# Altium schematic symbol library Device.SchLib: 594 symbols (part 2 of 3)
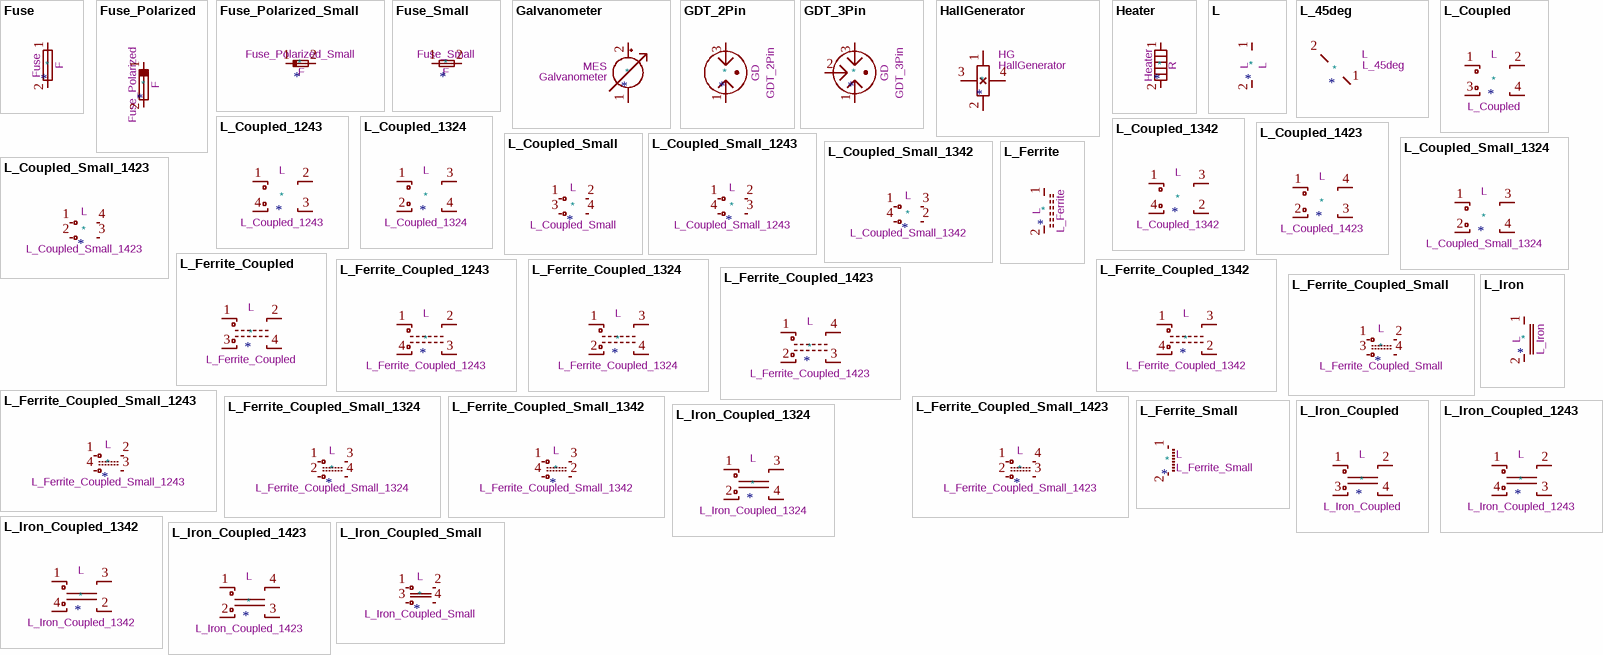
[diagram p20: symbols Fuse to L_Iron_Coupled_Small]

## L_Coupled_Small_1243
designator *  value L_Coupled_Small_1243  Reference: L
ki_keywords: inductor choke coil reactor magnetic coupled; ki_description: Coupled inductor, small symbol; ki_fp_filters: Choke_* *Coil* Inductor_* L_*; Datasheet: ~
pins: 1, 2, 3, 4

## L_Coupled_Small_1324
designator *  value L_Coupled_Small_1324  Reference: L
ki_keywords: inductor choke coil reactor magnetic coupled; ki_description: Coupled inductor, small symbol; ki_fp_filters: Choke_* *Coil* Inductor_* L_*; Datasheet: ~
pins: 1, 2, 3, 4

## L_Coupled_Small_1342
designator *  value L_Coupled_Small_1342  Reference: L
ki_keywords: inductor choke coil reactor magnetic coupled; ki_description: Coupled inductor, small symbol; ki_fp_filters: Choke_* *Coil* Inductor_* L_*; Datasheet: ~
pins: 1, 2, 3, 4

## L_Coupled_Small_1423
designator *  value L_Coupled_Small_1423  Reference: L
ki_keywords: inductor choke coil reactor magnetic coupled; ki_description: Coupled inductor, small symbol; ki_fp_filters: Choke_* *Coil* Inductor_* L_*; Datasheet: ~
pins: 1, 2, 3, 4

## L_Ferrite
designator *  value L_Ferrite  Reference: L
ki_keywords: inductor choke coil reactor magnetic; ki_description: Inductor with ferrite core; ki_fp_filters: Choke_* *Coil* Inductor_* L_*; Datasheet: ~
pins: 1, 2

## L_Ferrite_Coupled
designator *  value L_Ferrite_Coupled  Reference: L
ki_keywords: inductor choke coil reactor magnetic coupled; ki_description: Coupled inductor with ferrite core; ki_fp_filters: Choke_* *Coil* Inductor_* L_*; Datasheet: ~
pins: 1, 2, 3, 4

## L_Ferrite_Coupled_1243
designator *  value L_Ferrite_Coupled_1243  Reference: L
ki_keywords: inductor choke coil reactor magnetic coupled; ki_description: Coupled inductor with ferrite core; ki_fp_filters: Choke_* *Coil* Inductor_* L_*; Datasheet: ~
pins: 1, 2, 3, 4

## L_Ferrite_Coupled_1324
designator *  value L_Ferrite_Coupled_1324  Reference: L
ki_keywords: inductor choke coil reactor magnetic coupled; ki_description: Coupled inductor with ferrite core; ki_fp_filters: Choke_* *Coil* Inductor_* L_*; Datasheet: ~
pins: 1, 2, 3, 4

## L_Ferrite_Coupled_1342
designator *  value L_Ferrite_Coupled_1342  Reference: L
ki_keywords: inductor choke coil reactor magnetic coupled; ki_description: Coupled inductor with ferrite core; ki_fp_filters: Choke_* *Coil* Inductor_* L_*; Datasheet: ~
pins: 1, 2, 3, 4

## L_Ferrite_Coupled_1423
designator *  value L_Ferrite_Coupled_1423  Reference: L
ki_keywords: inductor choke coil reactor magnetic coupled; ki_description: Coupled inductor with ferrite core; ki_fp_filters: Choke_* *Coil* Inductor_* L_*; Datasheet: ~
pins: 1, 2, 3, 4

## L_Ferrite_Coupled_Small
designator *  value L_Ferrite_Coupled_Small  Reference: L
ki_keywords: inductor choke coil reactor magnetic coupled; ki_description: Coupled inductor with ferrite core, small symbol; ki_fp_filters: Choke_* *Coil* Inductor_* L_*; Datasheet: ~
pins: 1, 2, 3, 4

## L_Ferrite_Coupled_Small_1243
designator *  value L_Ferrite_Coupled_Small_1243  Reference: L
ki_keywords: inductor choke coil reactor magnetic coupled; ki_description: Coupled inductor with ferrite core, small symbol; ki_fp_filters: Choke_* *Coil* Inductor_* L_*; Datasheet: ~
pins: 1, 2, 3, 4

## L_Ferrite_Coupled_Small_1324
designator *  value L_Ferrite_Coupled_Small_1324  Reference: L
ki_keywords: inductor choke coil reactor magnetic coupled; ki_description: Coupled inductor with ferrite core, small symbol; ki_fp_filters: Choke_* *Coil* Inductor_* L_*; Datasheet: ~
pins: 1, 2, 3, 4

## L_Ferrite_Coupled_Small_1342
designator *  value L_Ferrite_Coupled_Small_1342  Reference: L
ki_keywords: inductor choke coil reactor magnetic coupled; ki_description: Coupled inductor with ferrite core, small symbol; ki_fp_filters: Choke_* *Coil* Inductor_* L_*; Datasheet: ~
pins: 1, 2, 3, 4

## L_Ferrite_Coupled_Small_1423
designator *  value L_Ferrite_Coupled_Small_1423  Reference: L
ki_keywords: inductor choke coil reactor magnetic coupled; ki_description: Coupled inductor with ferrite core, small symbol; ki_fp_filters: Choke_* *Coil* Inductor_* L_*; Datasheet: ~
pins: 1, 2, 3, 4

## L_Ferrite_Small
designator *  value L_Ferrite_Small  Reference: L
ki_keywords: inductor choke coil reactor magnetic; ki_description: Inductor with ferrite core, small symbol; ki_fp_filters: Choke_* *Coil* Inductor_* L_*; Datasheet: ~
pins: 1, 2

## L_Iron
designator *  value L_Iron  Reference: L
ki_keywords: inductor choke coil reactor magnetic; ki_description: Inductor with iron core; ki_fp_filters: Choke_* *Coil* Inductor_* L_*; Datasheet: ~
pins: 1, 2

## L_Iron_Coupled
designator *  value L_Iron_Coupled  Reference: L
ki_keywords: inductor choke coil reactor magnetic coupled; ki_description: Coupled inductor with iron core; ki_fp_filters: Choke_* *Coil* Inductor_* L_*; Datasheet: ~
pins: 1, 2, 3, 4

## L_Iron_Coupled_1243
designator *  value L_Iron_Coupled_1243  Reference: L
ki_keywords: inductor choke coil reactor magnetic coupled; ki_description: Coupled inductor with iron core; ki_fp_filters: Choke_* *Coil* Inductor_* L_*; Datasheet: ~
pins: 1, 2, 3, 4

## L_Iron_Coupled_1324
designator *  value L_Iron_Coupled_1324  Reference: L
ki_keywords: inductor choke coil reactor magnetic coupled; ki_description: Coupled inductor with iron core; ki_fp_filters: Choke_* *Coil* Inductor_* L_*; Datasheet: ~
pins: 1, 2, 3, 4

## L_Iron_Coupled_1342
designator *  value L_Iron_Coupled_1342  Reference: L
ki_keywords: inductor choke coil reactor magnetic coupled; ki_description: Coupled inductor with iron core; ki_fp_filters: Choke_* *Coil* Inductor_* L_*; Datasheet: ~
pins: 1, 2, 3, 4

## L_Iron_Coupled_1423
designator *  value L_Iron_Coupled_1423  Reference: L
ki_keywords: inductor choke coil reactor magnetic coupled; ki_description: Coupled inductor with iron core; ki_fp_filters: Choke_* *Coil* Inductor_* L_*; Datasheet: ~
pins: 1, 2, 3, 4

## L_Iron_Coupled_Small
designator *  value L_Iron_Coupled_Small  Reference: L
ki_keywords: inductor choke coil reactor magnetic coupled; ki_description: Coupled inductor with iron core, small symbol; ki_fp_filters: Choke_* *Coil* Inductor_* L_*; Datasheet: ~
pins: 1, 2, 3, 4

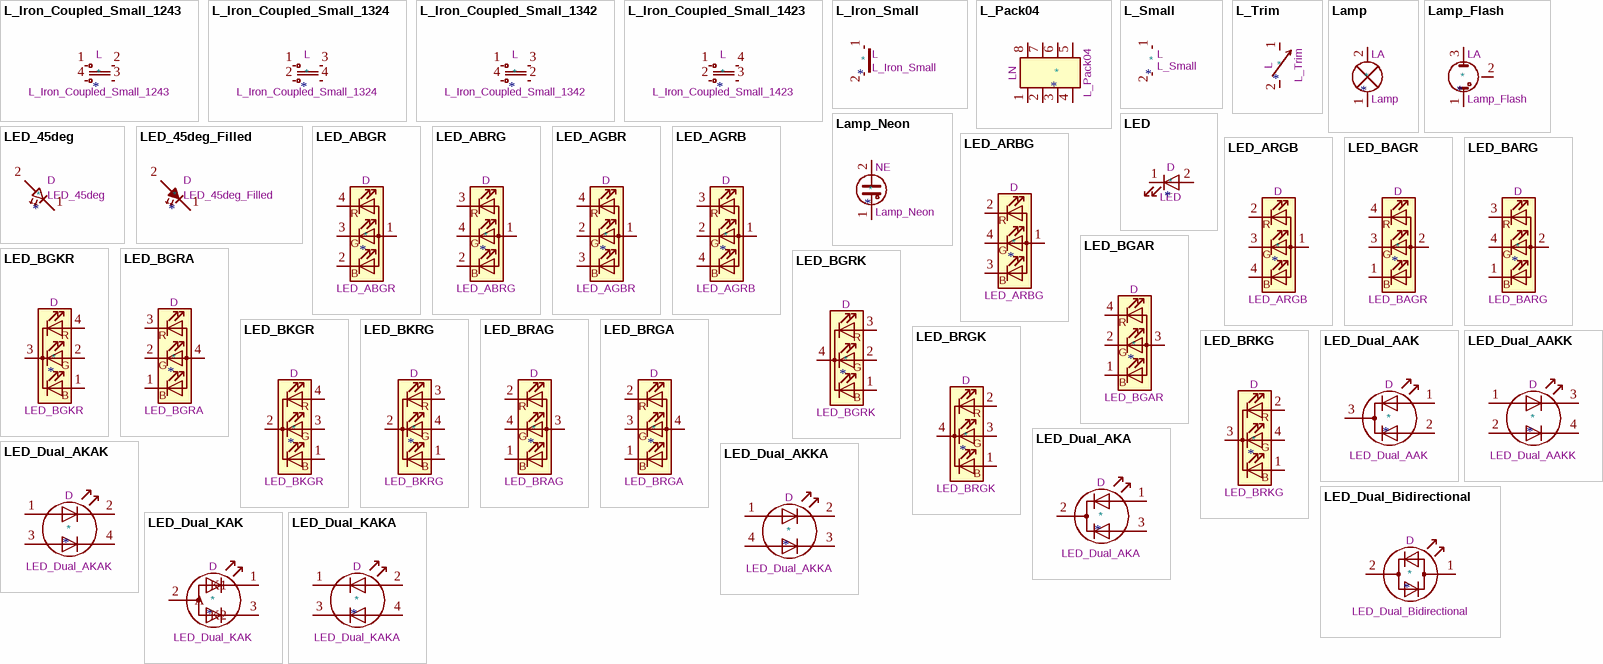
[diagram p7: symbols L_Iron_Coupled_Small_1243 to LED_Dual_KAKA]

## L_Iron_Coupled_Small_1243
designator *  value L_Iron_Coupled_Small_1243  Reference: L
ki_keywords: inductor choke coil reactor magnetic coupled; ki_description: Coupled inductor with iron core, small symbol; ki_fp_filters: Choke_* *Coil* Inductor_* L_*; Datasheet: ~
pins: 1, 2, 3, 4

## L_Iron_Coupled_Small_1324
designator *  value L_Iron_Coupled_Small_1324  Reference: L
ki_keywords: inductor choke coil reactor magnetic coupled; ki_description: Coupled inductor with iron core, small symbol; ki_fp_filters: Choke_* *Coil* Inductor_* L_*; Datasheet: ~
pins: 1, 2, 3, 4

## L_Iron_Coupled_Small_1342
designator *  value L_Iron_Coupled_Small_1342  Reference: L
ki_keywords: inductor choke coil reactor magnetic coupled; ki_description: Coupled inductor with iron core, small symbol; ki_fp_filters: Choke_* *Coil* Inductor_* L_*; Datasheet: ~
pins: 1, 2, 3, 4

## L_Iron_Coupled_Small_1423
designator *  value L_Iron_Coupled_Small_1423  Reference: L
ki_keywords: inductor choke coil reactor magnetic coupled; ki_description: Coupled inductor with iron core, small symbol; ki_fp_filters: Choke_* *Coil* Inductor_* L_*; Datasheet: ~
pins: 1, 2, 3, 4

## L_Iron_Small
designator *  value L_Iron_Small  Reference: L
ki_keywords: inductor choke coil reactor magnetic; ki_description: Inductor with iron core, small symbol; ki_fp_filters: Choke_* *Coil* Inductor_* L_*; Datasheet: ~
pins: 1, 2

## L_Pack04
designator *  value L_Pack04  Reference: LN
ki_keywords: L network parallel topology; ki_description: 4 inductor network, parallel topology; Datasheet: ~
pins: 1, 2, 3, 4, 5, 6, 7, 8

## L_Small
designator *  value L_Small  Reference: L
ki_keywords: inductor choke coil reactor magnetic; ki_description: Inductor, small symbol; ki_fp_filters: Choke_* *Coil* Inductor_* L_*; Datasheet: ~
pins: 1, 2

## L_Trim
designator *  value L_Trim  Reference: L
ki_keywords: inductor choke coil reactor magnetic; ki_description: Variable inductor; ki_fp_filters: Inductor_* L_*; Datasheet: ~
pins: 1, 2

## Lamp
designator *  value Lamp  Reference: LA
Datasheet: ~; ki_keywords: lamp; ki_description: Lamp
pins: 1 -, 2 +

## Lamp_Flash
designator *  value Lamp_Flash  Reference: LA
ki_keywords: flash lamp; ki_description: Flash lamp tube; Datasheet: ~
pins: 1, 2, 3

## Lamp_Neon
designator *  value Lamp_Neon  Reference: NE
ki_keywords: neon lamp; Datasheet: ~; ki_description: Neon lamp
pins: 1, 2

## LED
designator *  value LED  Reference: D
ki_keywords: LED diode; ki_description: Light emitting diode; ki_fp_filters: LED* LED_SMD:* LED_THT:*; Datasheet: ~
pins: 1 K, 2 A

## LED_45deg
designator *  value LED_45deg  Reference: D
ki_keywords: LED diode; ki_description: Light emitting diode, rotated by 45°; ki_fp_filters: LED* LED_SMD:* LED_THT:*; Datasheet: ~
pins: 1 K, 2 A

## LED_45deg_Filled
designator *  value LED_45deg_Filled  Reference: D
ki_keywords: LED diode; ki_description: Light emitting diode, rotated by 45°; ki_fp_filters: LED* LED_SMD:* LED_THT:*; Datasheet: ~
pins: 1 K, 2 A

## LED_ABGR
designator *  value LED_ABGR  Reference: D
ki_keywords: LED RGB diode; ki_description: RGB LED, anode/blue/green/red; ki_fp_filters: LED* LED_SMD:* LED_THT:*; Datasheet: ~
pins: 1 A, 2 BK, 3 GK, 4 RK
text: R; G; B

## LED_ABRG
designator *  value LED_ABRG  Reference: D
ki_keywords: LED RGB diode; ki_description: RGB LED, anode/blue/red/green; ki_fp_filters: LED* LED_SMD:* LED_THT:*; Datasheet: ~
pins: 1 A, 2 BK, 3 RK, 4 GK
text: R; G; B

## LED_AGBR
designator *  value LED_AGBR  Reference: D
ki_keywords: LED RGB diode; ki_description: RGB LED, anode/green/blue/red; ki_fp_filters: LED* LED_SMD:* LED_THT:*; Datasheet: ~
pins: 1 A, 2 GK, 3 BK, 4 RK
text: R; G; B

## LED_AGRB
designator *  value LED_AGRB  Reference: D
ki_keywords: LED RGB diode; ki_description: RGB LED, anode/green/red/blue; ki_fp_filters: LED* LED_SMD:* LED_THT:*; Datasheet: ~
pins: 1 A, 2 GK, 3 RK, 4 BK
text: R; G; B

## LED_ARBG
designator *  value LED_ARBG  Reference: D
ki_keywords: LED RGB diode; ki_description: RGB LED, anode/red/blue/green; ki_fp_filters: LED* LED_SMD:* LED_THT:*; Datasheet: ~
pins: 1 A, 2 RK, 3 BK, 4 GK
text: R; G; B

## LED_ARGB
designator *  value LED_ARGB  Reference: D
ki_keywords: LED RGB diode; ki_description: RGB LED, anode/red/green/blue; ki_fp_filters: LED* LED_SMD:* LED_THT:*; Datasheet: ~
pins: 1 A, 2 RK, 3 GK, 4 BK
text: R; G; B

## LED_BAGR
designator *  value LED_BAGR  Reference: D
ki_keywords: LED RGB diode; ki_description: RGB LED, blue/anode/green/red; ki_fp_filters: LED* LED_SMD:* LED_THT:*; Datasheet: ~
pins: 1 BK, 2 A, 3 GK, 4 RK
text: R; G; B

## LED_BARG
designator *  value LED_BARG  Reference: D
ki_keywords: LED RGB diode; ki_description: RGB LED, blue/anode/red/green; ki_fp_filters: LED* LED_SMD:* LED_THT:*; Datasheet: ~
pins: 1 BK, 2 A, 3 RK, 4 GK
text: R; G; B

## LED_BGAR
designator *  value LED_BGAR  Reference: D
ki_keywords: LED RGB diode; ki_description: RGB LED, blue/green/anode/red; ki_fp_filters: LED* LED_SMD:* LED_THT:*; Datasheet: ~
pins: 1 BK, 2 GK, 3 A, 4 RK
text: R; G; B

## LED_BGKR
designator *  value LED_BGKR  Reference: D
ki_keywords: LED RGB diode; ki_description: RGB LED, blue/green/cathode/red; ki_fp_filters: LED* LED_SMD:* LED_THT:*; Datasheet: ~
pins: 1 BA, 2 GA, 3 K, 4 RA
text: R; G; B

## LED_BGRA
designator *  value LED_BGRA  Reference: D
ki_keywords: LED RGB diode; ki_description: RGB LED, blue/green/red/anode; ki_fp_filters: LED* LED_SMD:* LED_THT:*; Datasheet: ~
pins: 1 BK, 2 GK, 3 RK, 4 A
text: R; G; B

## LED_BGRK
designator *  value LED_BGRK  Reference: D
ki_keywords: LED RGB diode; ki_description: RGB LED, blue/green/red/cathode; ki_fp_filters: LED* LED_SMD:* LED_THT:*; Datasheet: ~
pins: 1 BA, 2 GA, 3 RA, 4 K
text: R; G; B

## LED_BKGR
designator *  value LED_BKGR  Reference: D
ki_keywords: LED RGB diode; ki_description: RGB LED, blue/cathode/green/red; ki_fp_filters: LED* LED_SMD:* LED_THT:*; Datasheet: ~
pins: 1 BA, 2 K, 3 GA, 4 RA
text: R; G; B

## LED_BKRG
designator *  value LED_BKRG  Reference: D
ki_keywords: LED RGB diode; ki_description: RGB LED, blue/cathode/red/green; ki_fp_filters: LED* LED_SMD:* LED_THT:*; Datasheet: ~
pins: 1 BA, 2 K, 3 RA, 4 GA
text: R; G; B

## LED_BRAG
designator *  value LED_BRAG  Reference: D
ki_keywords: LED RGB diode; ki_description: RGB LED, blue/red/anode/green; ki_fp_filters: LED* LED_SMD:* LED_THT:*; Datasheet: ~
pins: 1 BK, 2 RK, 3 A, 4 GK
text: R; G; B

## LED_BRGA
designator *  value LED_BRGA  Reference: D
ki_keywords: LED RGB diode; ki_description: RGB LED, blue/red/green/anode; ki_fp_filters: LED* LED_SMD:* LED_THT:*; Datasheet: ~
pins: 1 BK, 2 RK, 3 GK, 4 A
text: R; G; B

## LED_BRGK
designator *  value LED_BRGK  Reference: D
ki_keywords: LED RGB diode; ki_description: RGB LED, blue/red/green/cathode; ki_fp_filters: LED* LED_SMD:* LED_THT:*; Datasheet: ~
pins: 1 BA, 2 RA, 3 GA, 4 K
text: R; G; B

## LED_BRKG
designator *  value LED_BRKG  Reference: D
ki_keywords: LED RGB diode; ki_description: RGB LED, blue/red/cathode/green; ki_fp_filters: LED* LED_SMD:* LED_THT:*; Datasheet: ~
pins: 1 BA, 2 RA, 3 K, 4 GA
text: R; G; B

## LED_Dual_AAK
designator *  value LED_Dual_AAK  Reference: D
ki_keywords: LED diode bicolor dual; ki_description: Dual LED, common cathode on pin 3; ki_fp_filters: LED* LED_SMD:* LED_THT:*; Datasheet: ~
pins: 1 A1, 2 A2, 3 K

## LED_Dual_AAKK
designator *  value LED_Dual_AAKK  Reference: D
ki_keywords: LED diode bicolor dual; ki_description: Dual LED, cathodes on pins 3 and 4; ki_fp_filters: LED* LED_SMD:* LED_THT:*; Datasheet: ~
pins: 1 A1, 2 A2, 3 K1, 4 K2

## LED_Dual_AKA
designator *  value LED_Dual_AKA  Reference: D
ki_keywords: LED diode bicolor dual; ki_description: Dual LED, common cathode on pin 2; ki_fp_filters: LED* LED_SMD:* LED_THT:*; Datasheet: ~
pins: 1 A1, 2 K, 3 A2

## LED_Dual_AKAK
designator *  value LED_Dual_AKAK  Reference: D
ki_keywords: LED diode bicolor dual; ki_description: Dual LED, cathodes on pins 2 and 4; ki_fp_filters: LED* LED_SMD:* LED_THT:*; Datasheet: ~
pins: 1 A1, 2 K1, 3 A2, 4 K2

## LED_Dual_AKKA
designator *  value LED_Dual_AKKA  Reference: D
ki_keywords: LED diode bicolor dual; ki_description: Dual LED, cathodes on pins 2 and 3; ki_fp_filters: LED* LED_SMD:* LED_THT:*; Datasheet: ~
pins: 1 A1, 2 K1, 3 K2, 4 A2

## LED_Dual_Bidirectional
designator *  value LED_Dual_Bidirectional  Reference: D
ki_keywords: LED diode bicolor dual; ki_description: Dual LED, bidirectional; ki_fp_filters: LED* LED_SMD:* LED_THT:*; Datasheet: ~
pins: 1 KA, 2 AK

## LED_Dual_KAK
designator *  value LED_Dual_KAK  Reference: D
ki_keywords: LED diode bicolor dual; ki_description: Dual LED, common anode on pin 2; ki_fp_filters: LED* LED_SMD:* LED_THT:*; Datasheet: ~
pins: 1 K1, 2 A, 3 K2

## LED_Dual_KAKA
designator *  value LED_Dual_KAKA  Reference: D
ki_keywords: LED diode bicolor dual; ki_description: Dual LED, cathodes on pins 1 and 3; ki_fp_filters: LED* LED_SMD:* LED_THT:*; Datasheet: ~
pins: 1 A1, 2 K1, 3 A2, 4 K2

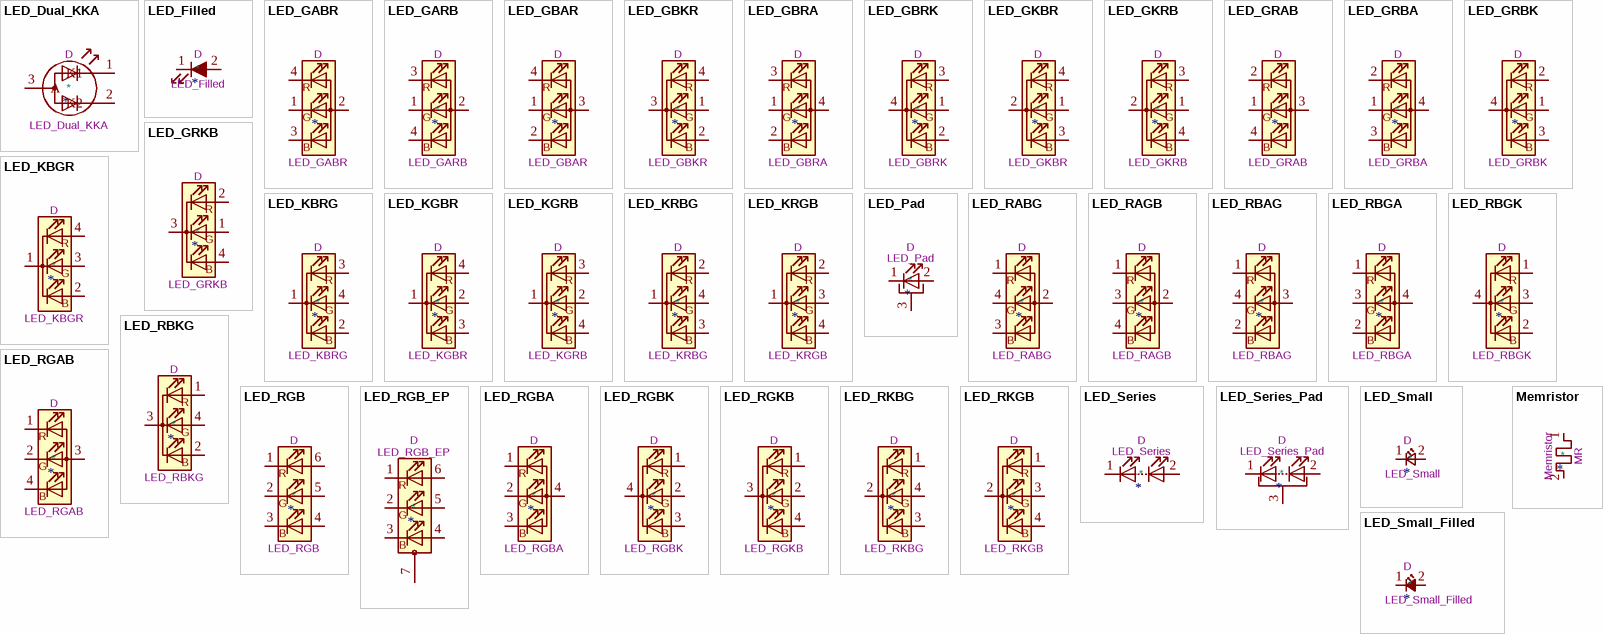
[diagram p8: symbols LED_Dual_KKA to Memristor]

## LED_Dual_KKA
designator *  value LED_Dual_KKA  Reference: D
ki_keywords: LED diode bicolor dual; ki_description: Dual LED, common anode on pin 3; ki_fp_filters: LED* LED_SMD:* LED_THT:*; Datasheet: ~
pins: 1 K1, 2 K2, 3 A

## LED_Filled
designator *  value LED_Filled  Reference: D
ki_keywords: LED diode; ki_description: Light emitting diode, filled shape; ki_fp_filters: LED* LED_SMD:* LED_THT:*; Datasheet: ~
pins: 1 K, 2 A

## LED_GABR
designator *  value LED_GABR  Reference: D
ki_keywords: LED RGB diode; ki_description: RGB LED, green/anode/blue/red; ki_fp_filters: LED* LED_SMD:* LED_THT:*; Datasheet: ~
pins: 1 GK, 2 A, 3 BK, 4 RK
text: R; G; B

## LED_GARB
designator *  value LED_GARB  Reference: D
ki_keywords: LED RGB diode; ki_description: RGB LED, green/anode/red/blue; ki_fp_filters: LED* LED_SMD:* LED_THT:*; Datasheet: ~
pins: 1 GK, 2 A, 3 RK, 4 BK
text: R; G; B

## LED_GBAR
designator *  value LED_GBAR  Reference: D
ki_keywords: LED RGB diode; ki_description: RGB LED, green/blue/anode/red; ki_fp_filters: LED* LED_SMD:* LED_THT:*; Datasheet: ~
pins: 1 GK, 2 BK, 3 A, 4 RK
text: R; G; B

## LED_GBKR
designator *  value LED_GBKR  Reference: D
ki_keywords: LED RGB diode; ki_description: RGB LED, green/blue/cathode/red; ki_fp_filters: LED* LED_SMD:* LED_THT:*; Datasheet: ~
pins: 1 GA, 2 BA, 3 K, 4 RA
text: R; G; B

## LED_GBRA
designator *  value LED_GBRA  Reference: D
ki_keywords: LED RGB diode; ki_description: RGB LED, green/blue/red/anode; ki_fp_filters: LED* LED_SMD:* LED_THT:*; Datasheet: ~
pins: 1 GK, 2 BK, 3 RK, 4 A
text: R; G; B

## LED_GBRK
designator *  value LED_GBRK  Reference: D
ki_keywords: LED RGB diode; ki_description: RGB LED, green/blue/red/cathode; ki_fp_filters: LED* LED_SMD:* LED_THT:*; Datasheet: ~
pins: 1 GA, 2 BA, 3 RA, 4 K
text: R; G; B

## LED_GKBR
designator *  value LED_GKBR  Reference: D
ki_keywords: LED RGB diode; ki_description: RGB LED, green/cathode/blue/red; ki_fp_filters: LED* LED_SMD:* LED_THT:*; Datasheet: ~
pins: 1 GA, 2 K, 3 BA, 4 RA
text: R; G; B

## LED_GKRB
designator *  value LED_GKRB  Reference: D
ki_keywords: LED RGB diode; ki_description: RGB LED, green/cathode/red/blue; ki_fp_filters: LED* LED_SMD:* LED_THT:*; Datasheet: ~
pins: 1 GA, 2 K, 3 RA, 4 BA
text: R; G; B

## LED_GRAB
designator *  value LED_GRAB  Reference: D
ki_keywords: LED RGB diode; ki_description: RGB LED, green/red/anode/blue; ki_fp_filters: LED* LED_SMD:* LED_THT:*; Datasheet: ~
pins: 1 GK, 2 RK, 3 A, 4 BK
text: R; G; B

## LED_GRBA
designator *  value LED_GRBA  Reference: D
ki_keywords: LED RGB diode; ki_description: RGB LED, green/red/blue/anode; ki_fp_filters: LED* LED_SMD:* LED_THT:*; Datasheet: ~
pins: 1 GK, 2 RK, 3 BK, 4 A
text: R; G; B

## LED_GRBK
designator *  value LED_GRBK  Reference: D
ki_keywords: LED RGB diode; ki_description: RGB LED, green/red/blue/cathode; ki_fp_filters: LED* LED_SMD:* LED_THT:*; Datasheet: ~
pins: 1 GA, 2 RA, 3 BA, 4 K
text: R; G; B

## LED_GRKB
designator *  value LED_GRKB  Reference: D
ki_keywords: LED RGB diode; ki_description: RGB LED, green/red/cathode/blue; ki_fp_filters: LED* LED_SMD:* LED_THT:*; Datasheet: ~
pins: 1 GA, 2 RA, 3 K, 4 BA
text: R; G; B

## LED_KBGR
designator *  value LED_KBGR  Reference: D
ki_keywords: LED RGB diode; ki_description: RGB LED, cathode/blue/green/red; ki_fp_filters: LED* LED_SMD:* LED_THT:*; Datasheet: ~
pins: 1 K, 2 BA, 3 GA, 4 RA
text: R; G; B

## LED_KBRG
designator *  value LED_KBRG  Reference: D
ki_keywords: LED RGB diode; ki_description: RGB LED, cathode/blue/red/green; ki_fp_filters: LED* LED_SMD:* LED_THT:*; Datasheet: ~
pins: 1 K, 2 BA, 3 RA, 4 GA
text: R; G; B

## LED_KGBR
designator *  value LED_KGBR  Reference: D
ki_keywords: LED RGB diode; ki_description: RGB LED, cathode/green/blue/red; ki_fp_filters: LED* LED_SMD:* LED_THT:*; Datasheet: ~
pins: 1 K, 2 GA, 3 BA, 4 RA
text: R; G; B

## LED_KGRB
designator *  value LED_KGRB  Reference: D
ki_keywords: LED RGB diode; ki_description: RGB LED, cathode/green/red/blue; ki_fp_filters: LED* LED_SMD:* LED_THT:*; Datasheet: ~
pins: 1 K, 2 GA, 3 RA, 4 BA
text: R; G; B

## LED_KRBG
designator *  value LED_KRBG  Reference: D
ki_keywords: LED RGB diode; ki_description: RGB LED, cathode/red/blue/green; ki_fp_filters: LED* LED_SMD:* LED_THT:*; Datasheet: ~
pins: 1 K, 2 RA, 3 BA, 4 GA
text: R; G; B

## LED_KRGB
designator *  value LED_KRGB  Reference: D
ki_keywords: LED RGB diode; ki_description: RGB LED, cathode/red/green/blue; ki_fp_filters: LED* LED_SMD:* LED_THT:*; Datasheet: ~
pins: 1 K, 2 RA, 3 GA, 4 BA
text: R; G; B

## LED_Pad
designator *  value LED_Pad  Reference: D
ki_keywords: LED diode pad; ki_description: Light emitting diode with pad; ki_fp_filters: LED* LED_SMD:* LED_THT:*; Datasheet: ~
pins: 1 K, 2 A, 3 PAD

## LED_RABG
designator *  value LED_RABG  Reference: D
ki_keywords: LED RGB diode; ki_description: RGB LED, red/anode/blue/green; ki_fp_filters: LED* LED_SMD:* LED_THT:*; Datasheet: ~
pins: 1 RK, 2 A, 3 BK, 4 GK
text: R; G; B

## LED_RAGB
designator *  value LED_RAGB  Reference: D
ki_keywords: LED RGB diode; ki_description: RGB LED, red/anode/green/blue; ki_fp_filters: LED* LED_SMD:* LED_THT:*; Datasheet: ~
pins: 1 RK, 2 A, 3 GK, 4 BK
text: R; G; B

## LED_RBAG
designator *  value LED_RBAG  Reference: D
ki_keywords: LED RGB diode; ki_description: RGB LED, red/blue/anode/green; ki_fp_filters: LED* LED_SMD:* LED_THT:*; Datasheet: ~
pins: 1 RK, 2 BK, 3 A, 4 GK
text: R; G; B

## LED_RBGA
designator *  value LED_RBGA  Reference: D
ki_keywords: LED RGB diode; ki_description: RGB LED, red/blue/green/anode; ki_fp_filters: LED* LED_SMD:* LED_THT:*; Datasheet: ~
pins: 1 RK, 2 BK, 3 GK, 4 A
text: R; G; B

## LED_RBGK
designator *  value LED_RBGK  Reference: D
ki_keywords: LED RGB diode; ki_description: RGB LED, red/blue/green/cathode; ki_fp_filters: LED* LED_SMD:* LED_THT:*; Datasheet: ~
pins: 1 RA, 2 BA, 3 GA, 4 K
text: R; G; B

## LED_RBKG
designator *  value LED_RBKG  Reference: D
ki_keywords: LED RGB diode; ki_description: RGB LED, red/blue/cathode/green; ki_fp_filters: LED* LED_SMD:* LED_THT:*; Datasheet: ~
pins: 1 RA, 2 BA, 3 K, 4 GA
text: R; G; B

## LED_RGAB
designator *  value LED_RGAB  Reference: D
ki_keywords: LED RGB diode; ki_description: RGB LED, red/green/anode/blue; ki_fp_filters: LED* LED_SMD:* LED_THT:*; Datasheet: ~
pins: 1 RK, 2 GK, 3 A, 4 BK
text: R; G; B

## LED_RGB
designator *  value LED_RGB  Reference: D
ki_keywords: LED RGB diode; ki_description: RGB LED, 6 pin package; ki_fp_filters: LED* LED_SMD:* LED_THT:*; Datasheet: ~
pins: 1 RK, 2 GK, 3 BK, 4 BA, 5 GA, 6 RA
text: R; G; B

## LED_RGB_EP
designator *  value LED_RGB_EP  Reference: D
ki_keywords: LED RGB diode; ki_description: RGB LED, 6 pin package with exposed pad; ki_fp_filters: LED* LED_SMD:* LED_THT:*; Datasheet: ~
pins: 1 RK, 2 GK, 3 BK, 4 BA, 5 GA, 6 RA, 7 PAD
text: R; G; B

## LED_RGBA
designator *  value LED_RGBA  Reference: D
ki_keywords: LED RGB diode; ki_description: RGB LED, red/green/blue/anode; ki_fp_filters: LED* LED_SMD:* LED_THT:*; Datasheet: ~
pins: 1 RK, 2 GK, 3 BK, 4 A
text: R; G; B

## LED_RGBK
designator *  value LED_RGBK  Reference: D
ki_keywords: LED RGB diode; ki_description: RGB LED, red/green/blue/cathode; ki_fp_filters: LED* LED_SMD:* LED_THT:*; Datasheet: ~
pins: 1 RA, 2 GA, 3 BA, 4 K
text: R; G; B

## LED_RGKB
designator *  value LED_RGKB  Reference: D
ki_keywords: LED RGB diode; ki_description: RGB LED, red/green/cathode/blue; ki_fp_filters: LED* LED_SMD:* LED_THT:*; Datasheet: ~
pins: 1 RA, 2 GA, 3 K, 4 BA
text: R; G; B

## LED_RKBG
designator *  value LED_RKBG  Reference: D
ki_keywords: LED RGB diode; ki_description: RGB LED, red/cathode/blue/green; ki_fp_filters: LED* LED_SMD:* LED_THT:*; Datasheet: ~
pins: 1 RA, 2 K, 3 BA, 4 GA
text: R; G; B

## LED_RKGB
designator *  value LED_RKGB  Reference: D
ki_keywords: LED RGB diode; ki_description: RGB LED, red/cathode/green/blue; ki_fp_filters: LED* LED_SMD:* LED_THT:*; Datasheet: ~
pins: 1 RA, 2 K, 3 GA, 4 BA
text: R; G; B

## LED_Series
designator *  value LED_Series  Reference: D
ki_keywords: LED diode; ki_description: Several LEDs in series; ki_fp_filters: LED* LED_SMD:* LED_THT:*; Datasheet: ~
pins: 1 K, 2 A

## LED_Series_Pad
designator *  value LED_Series_Pad  Reference: D
ki_keywords: LED diode pad; ki_description: Several LEDs in series with exposed pad; ki_fp_filters: LED* LED_SMD:* LED_THT:*; Datasheet: ~
pins: 1 K, 2 A, 3 PAD

## LED_Small
designator *  value LED_Small  Reference: D
ki_keywords: LED diode light-emitting-diode; ki_description: Light emitting diode, small symbol; ki_fp_filters: LED* LED_SMD:* LED_THT:*; Datasheet: ~
pins: 1 K, 2 A

## LED_Small_Filled
designator *  value LED_Small_Filled  Reference: D
ki_keywords: LED diode light-emitting-diode; ki_description: Light emitting diode, small symbol, filled shape; ki_fp_filters: LED* LED_SMD:* LED_THT:*; Datasheet: ~
pins: 1 K, 2 A

## Memristor
designator *  value Memristor  Reference: MR
Datasheet: ~; ki_keywords: memristor; ki_description: Memristor
pins: 1, 2

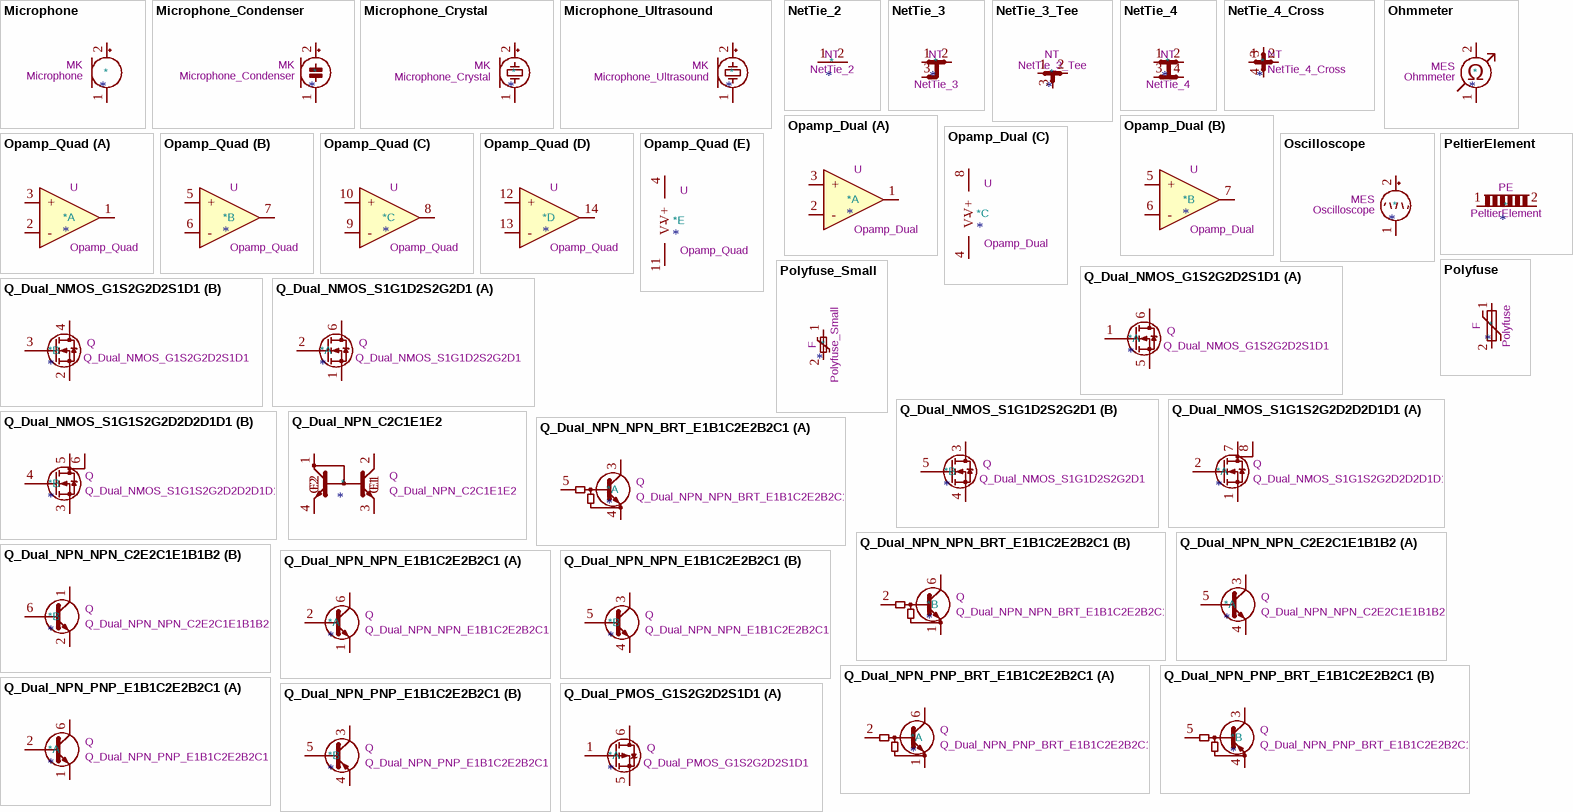
[diagram p9: symbols Microphone to Q_Dual_PMOS_G1S2G2D2S1D1]

## Microphone
designator *  value Microphone  Reference: MK
Datasheet: ~; ki_keywords: microphone; ki_description: Microphone
pins: 1 -, 2 +

## Microphone_Condenser
designator *  value Microphone_Condenser  Reference: MK
ki_keywords: capacitance condenser microphone; ki_description: Condenser microphone; Datasheet: ~
pins: 1 -, 2 +

## Microphone_Crystal
designator *  value Microphone_Crystal  Reference: MK
ki_keywords: microphone crystal; ki_description: Crystal microphone; Datasheet: ~
pins: 1 -, 2 +

## Microphone_Ultrasound
designator *  value Microphone_Ultrasound  Reference: MK
ki_keywords: microphone ultrasound crystal; ki_description: Ultrasound receiver; Datasheet: ~
pins: 1 -, 2 +

## NetTie_2
designator *  value NetTie_2  Reference: NT
ki_keywords: net tie short; ki_description: Net tie, 2 pins; ki_fp_filters: Net*Tie*; Datasheet: ~
pins: 1, 2

## NetTie_3
designator *  value NetTie_3  Reference: NT
ki_keywords: net tie short; ki_description: Net tie, 3 pins; ki_fp_filters: Net*Tie*; Datasheet: ~
pins: 1, 2, 3

## NetTie_3_Tee
designator *  value NetTie_3_Tee  Reference: NT
ki_keywords: net tie short; ki_description: Net tie, 3 pins, tee; ki_fp_filters: Net*Tie*; Datasheet: ~
pins: 1, 2, 3

## NetTie_4
designator *  value NetTie_4  Reference: NT
ki_keywords: net tie short; ki_description: Net tie, 4 pins; ki_fp_filters: Net*Tie*; Datasheet: ~
pins: 1, 2, 3, 4

## NetTie_4_Cross
designator *  value NetTie_4_Cross  Reference: NT
ki_keywords: net tie short; ki_description: Net tie, 4 pins, cross; ki_fp_filters: Net*Tie*; Datasheet: ~
pins: 1, 2, 3, 4

## Ohmmeter
designator *  value Ohmmeter  Reference: MES
ki_keywords: ohmmeter resistance; Datasheet: ~; ki_description: Ohmmeter
pins: 1 -, 2 +
text: Ω

## Opamp_Dual
designator *  value Opamp_Dual  Reference: U
Sim.Library: ${KICAD7_SYMBOL_DIR}/Simulation_SPICE.sp; Sim.Name: kicad_builtin_opamp_dual; Sim.Device: SUBCKT; Sim.Pins: 1=out1 2=in1- 3=in1+ 4=vee 5=in2+ 6=in2- 7=out2 8=vcc; ki_keywords: dual opamp; ki_description: Dual operational amplifier; ki_fp_filters: SOIC*3.9x4.9mm*P1.27mm* DIP*W7.62mm* MSOP*3x3mm*P0.65mm* SSOP*2.95x2.8mm*P0.65mm* TSSOP*3x3mm*P0.65mm* VSSOP*P0.5mm* TO?99*; Datasheet: ~
part A pins: 1, 2 -, 3 +
part B pins: 5 +, 6 -, 7
part C pins: 4 V-, 8 V+

## Opamp_Quad
designator *  value Opamp_Quad  Reference: U
Sim.Library: ${KICAD7_SYMBOL_DIR}/Simulation_SPICE.sp; Sim.Name: kicad_builtin_opamp_quad; Sim.Device: SUBCKT; Sim.Pins: 1=out1 2=in1- 3=in1+ 4=vcc 5=in2+ 6=in2- 7=out2 8=out3 9=in3- 10=in3+ 11=vee 12=in4+ 13=in4- 14=out4; ki_keywords: quad opamp; ki_description: Quad operational amplifier; ki_fp_filters: SOIC*3.9x8.7mm*P1.27mm* DIP*W7.62mm* TSSOP*4.4x5mm*P0.65mm* SSOP*5.3x6.2mm*P0.65mm*; Datasheet: ~
part A pins: 1, 2 -, 3 +
part B pins: 5 +, 6 -, 7
part C pins: 8, 9 -, 10 +
part D pins: 12 +, 13 -, 14
part E pins: 4 V+, 11 V-

## Oscilloscope
designator *  value Oscilloscope  Reference: MES
Datasheet: ~; ki_keywords: oscilloscope; ki_description: Oscilloscope
pins: 1 -, 2 +

## PeltierElement
designator *  value PeltierElement  Reference: PE
ki_keywords: Peltier TEC; ki_description: Peltier element, thermoelectric cooler; Datasheet: ~
pins: 1, 2

## Polyfuse
designator *  value Polyfuse  Reference: F
ki_keywords: resettable fuse PTC PPTC polyfuse polyswitch; ki_description: Resettable fuse, polymeric positive temperature coefficient; ki_fp_filters: *polyfuse* *PTC*; Datasheet: ~
pins: 1, 2

## Polyfuse_Small
designator *  value Polyfuse_Small  Reference: F
ki_keywords: resettable fuse PTC PPTC polyfuse polyswitch; ki_description: Resettable fuse, polymeric positive temperature coefficient, small symbol; ki_fp_filters: *polyfuse* *PTC*; Datasheet: ~
pins: 1, 2

## Q_Dual_NMOS_G1S2G2D2S1D1
designator *  value Q_Dual_NMOS_G1S2G2D2S1D1  Reference: Q
ki_keywords: transistor NMOS N-MOS N-MOSFET; ki_description: Dual NMOS transistor, 6 pin package; ki_fp_filters: TSOP* SC?70* SC?88* SOT?363*; Datasheet: ~
part A pins: 1 G, 5 S, 6 D
part B pins: 2 S, 3 G, 4 D

## Q_Dual_NMOS_S1G1D2S2G2D1
designator *  value Q_Dual_NMOS_S1G1D2S2G2D1  Reference: Q
ki_keywords: transistor NMOS N-MOS N-MOSFET; ki_description: Dual NMOS transistor, 6 pin package; ki_fp_filters: TSOP* SC?70* SC?88* SOT?363*; Datasheet: ~
part A pins: 1 S, 2 G, 6 D
part B pins: 3 D, 4 S, 5 G

## Q_Dual_NMOS_S1G1S2G2D2D2D1D1
designator *  value Q_Dual_NMOS_S1G1S2G2D2D2D1D1  Reference: Q
ki_keywords: transistor NMOS N-MOS N-MOSFET; ki_description: Dual NMOS transistor, 8 pin package; ki_fp_filters: SO* SOIC*; Datasheet: ~
part A pins: 1 S, 2 G, 7 D, 8 D
part B pins: 3 S, 4 G, 5 D, 6 D

## Q_Dual_NPN_C2C1E1E2
designator *  value Q_Dual_NPN_C2C1E1E2  Reference: Q
ki_keywords: transistor NPN; ki_description: Double NPN transistors, current mirror configuration; ki_fp_filters: SOT?143*; Datasheet: ~
pins: 1 C2, 2 C1, 3 E1, 4 E2

## Q_Dual_NPN_NPN_BRT_E1B1C2E2B2C1
designator *  value Q_Dual_NPN_NPN_BRT_E1B1C2E2B2C1  Reference: Q
ki_keywords: transistor NPN; ki_description: Dual NPN bias resistor transistor, 6 pin package; ki_fp_filters: SC?70* SC?88* SOT*363*; Datasheet: ~
part A pins: 3 C1, 4 E1, 5 B1
part B pins: 1 E1, 2 B1, 6 C1

## Q_Dual_NPN_NPN_C2E2C1E1B1B2
designator *  value Q_Dual_NPN_NPN_C2E2C1E1B1B2  Reference: Q
ki_keywords: transistor NPN; ki_description: Dual NPN transistor, 6 pin package; ki_fp_filters: SC?70* SC?88* SOT?363* SOT?23*; Datasheet: ~
part A pins: 3 C1, 4 E1, 5 B1
part B pins: 1 C2, 2 E2, 6 B2

## Q_Dual_NPN_NPN_E1B1C2E2B2C1
designator *  value Q_Dual_NPN_NPN_E1B1C2E2B2C1  Reference: Q
ki_keywords: transistor NPN; ki_description: Dual NPN transistor, 6 pin package; ki_fp_filters: SC?70* SC?88* SOT?363* SOT?23*; Datasheet: ~
part A pins: 1 E1, 2 B1, 6 C1
part B pins: 3 C2, 4 E2, 5 B2

## Q_Dual_NPN_PNP_BRT_E1B1C2E2B2C1
designator *  value Q_Dual_NPN_PNP_BRT_E1B1C2E2B2C1  Reference: Q
ki_keywords: transistor NPN; ki_description: Dual NPN/PNP bias resistor transistor, 6 pin package; ki_fp_filters: SC?70* SC?88* SOT*363*; Datasheet: ~
part A pins: 1 E1, 2 B1, 6 C1
part B pins: 3 C1, 4 E1, 5 B1

## Q_Dual_NPN_PNP_E1B1C2E2B2C1
designator *  value Q_Dual_NPN_PNP_E1B1C2E2B2C1  Reference: Q
ki_keywords: transistor NPN PNP; ki_description: Dual NPN/PNP transistor, 6 pin package; ki_fp_filters: SC?70* SC?88* SOT?363* SOT?23*; Datasheet: ~
part A pins: 1 E1, 2 B1, 6 C1
part B pins: 3 C2, 4 E2, 5 B2

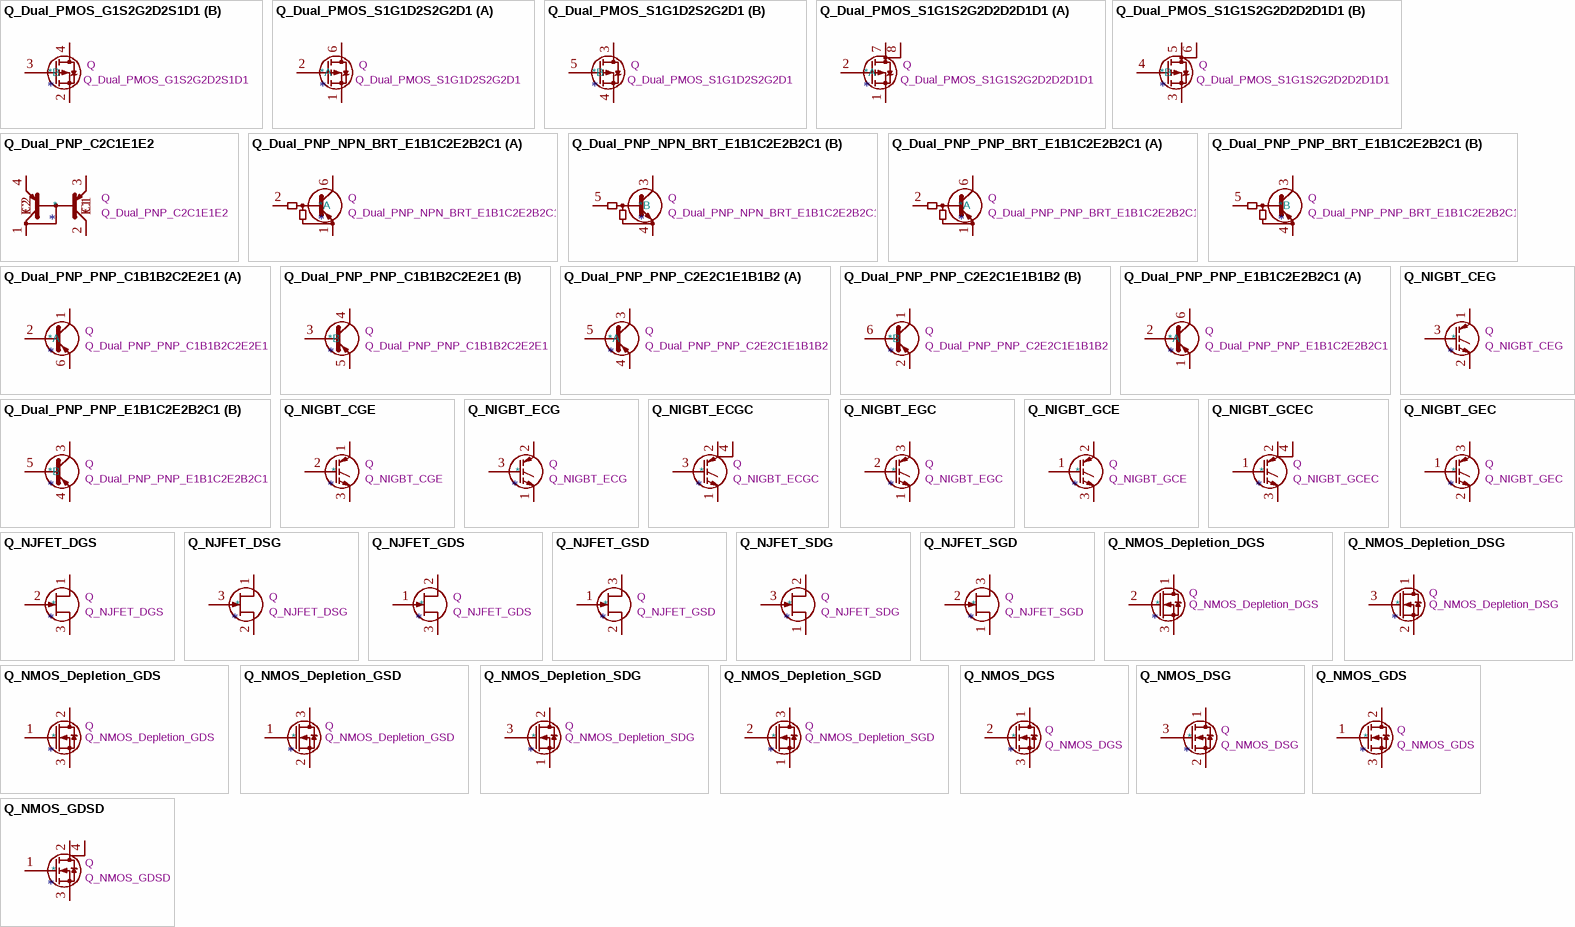
[diagram p10: symbols Q_Dual_PMOS_G1S2G2D2S1D1 to Q_NMOS_GDSD]

## Q_Dual_PMOS_G1S2G2D2S1D1
designator *  value Q_Dual_PMOS_G1S2G2D2S1D1  Reference: Q
ki_keywords: transistor PMOS P-MOS P-MOSFET; ki_description: Dual PMOS transistor, 6 pin package; ki_fp_filters: TSOP* SC?70* SC?88* SOT?363*; Datasheet: ~
part A pins: 1 G, 5 S, 6 D
part B pins: 2 S, 3 G, 4 D

## Q_Dual_PMOS_S1G1D2S2G2D1
designator *  value Q_Dual_PMOS_S1G1D2S2G2D1  Reference: Q
ki_keywords: transistor PMOS P-MOS P-MOSFET; ki_description: Dual PMOS transistor, 6 pin package; ki_fp_filters: TSOP* SC?70* SC?88* SOT?363*; Datasheet: ~
part A pins: 1 S, 2 G, 6 D
part B pins: 3 D, 4 S, 5 G

## Q_Dual_PMOS_S1G1S2G2D2D2D1D1
designator *  value Q_Dual_PMOS_S1G1S2G2D2D2D1D1  Reference: Q
ki_keywords: transistor PMOS P-MOS P-MOSFET; ki_description: Dual PMOS transistor, 8 pin package; ki_fp_filters: SO*; Datasheet: ~
part A pins: 1 S, 2 G, 7 D, 8 G
part B pins: 3 S, 4 G, 5 D, 6 G

## Q_Dual_PNP_C2C1E1E2
designator *  value Q_Dual_PNP_C2C1E1E2  Reference: Q
ki_keywords: transistor PNP; ki_description: Double PNP transistors, current mirror configuration; ki_fp_filters: SOT?143*; Datasheet: ~
pins: 1 C2, 2 C1, 3 E1, 4 E2

## Q_Dual_PNP_NPN_BRT_E1B1C2E2B2C1
designator *  value Q_Dual_PNP_NPN_BRT_E1B1C2E2B2C1  Reference: Q
ki_keywords: transistor NPN; ki_description: Dual PNP/NPN bias resistor transistor, 6 pin package; ki_fp_filters: SC?70* SC?88* SOT*363*; Datasheet: ~
part A pins: 1 E1, 2 B1, 6 C1
part B pins: 3 C1, 4 E1, 5 B1

## Q_Dual_PNP_PNP_BRT_E1B1C2E2B2C1
designator *  value Q_Dual_PNP_PNP_BRT_E1B1C2E2B2C1  Reference: Q
ki_keywords: transistor NPN; ki_description: Dual PNP bias resistor transistor, 6 pin package; ki_fp_filters: SC?70* SC?88* SOT*363*; Datasheet: ~
part A pins: 1 E1, 2 B1, 6 C1
part B pins: 3 C2, 4 E2, 5 B2

## Q_Dual_PNP_PNP_C1B1B2C2E2E1
designator *  value Q_Dual_PNP_PNP_C1B1B2C2E2E1  Reference: Q
ki_keywords: transistor PNP; ki_description: Dual PNP transistor, 6 pin package; ki_fp_filters: SC?70* SC?88* SOT?363* SOT?23*; Datasheet: https://www.diodes.com/assets/Datasheets/ds30437.pdf
part A pins: 1 C1, 2 B1, 6 E1
part B pins: 3 B2, 4 C2, 5 E2

## Q_Dual_PNP_PNP_C2E2C1E1B1B2
designator *  value Q_Dual_PNP_PNP_C2E2C1E1B1B2  Reference: Q
ki_keywords: transistor PNP; ki_description: Dual PNP transistor, 6 pin package; ki_fp_filters: SC?70* SC?88* SOT?363* SOT?23*; Datasheet: ~
part A pins: 3 C1, 4 E1, 5 B1
part B pins: 1 C2, 2 E2, 6 B2

## Q_Dual_PNP_PNP_E1B1C2E2B2C1
designator *  value Q_Dual_PNP_PNP_E1B1C2E2B2C1  Reference: Q
ki_keywords: transistor PNP; ki_description: Dual PNP transistor, 6 pin package; ki_fp_filters: SC?70* SC?88* SOT?363* SOT?23*; Datasheet: ~
part A pins: 1 E1, 2 B1, 6 C1
part B pins: 3 C2, 4 E2, 5 B2

## Q_NIGBT_CEG
designator *  value Q_NIGBT_CEG  Reference: Q
ki_keywords: transistor IGBT N-IGBT; ki_description: N-IGBT transistor, collector/emitter/gate; Datasheet: ~
pins: 1 C, 2 E, 3 G

## Q_NIGBT_CGE
designator *  value Q_NIGBT_CGE  Reference: Q
ki_keywords: transistor IGBT N-IGBT; ki_description: N-IGBT transistor, collector/gate/emitter; Datasheet: ~
pins: 1 C, 2 G, 3 E

## Q_NIGBT_ECG
designator *  value Q_NIGBT_ECG  Reference: Q
ki_keywords: transistor IGBT N-IGBT; ki_description: N-IGBT transistor, emitter/collector/gate; Datasheet: ~
pins: 1 E, 2 C, 3 G

## Q_NIGBT_ECGC
designator *  value Q_NIGBT_ECGC  Reference: Q
ki_keywords: transistor IGBT N-IGBT; ki_description: N-IGBT transistor, emitter/collector/gate, collector connected to mounting plane; Datasheet: ~
pins: 1 E, 2 C, 3 G, 4 C

## Q_NIGBT_EGC
designator *  value Q_NIGBT_EGC  Reference: Q
ki_keywords: transistor IGBT N-IGBT; ki_description: N-IGBT transistor, emitter/gate/collector; Datasheet: ~
pins: 1 E, 2 G, 3 C

## Q_NIGBT_GCE
designator *  value Q_NIGBT_GCE  Reference: Q
ki_keywords: transistor IGBT N-IGBT; ki_description: N-IGBT transistor, gate/collector/emitter; Datasheet: ~
pins: 1 G, 2 C, 3 E

## Q_NIGBT_GCEC
designator *  value Q_NIGBT_GCEC  Reference: Q
ki_keywords: transistor IGBT N-IGBT; ki_description: N-IGBT transistor, gate/collector/emitter, collector connected to mounting plane; Datasheet: ~
pins: 1 G, 2 C, 3 E, 4 C

## Q_NIGBT_GEC
designator *  value Q_NIGBT_GEC  Reference: Q
ki_keywords: transistor IGBT N-IGBT; ki_description: N-IGBT transistor, gate/emitter/collector; Datasheet: ~
pins: 1 G, 2 E, 3 C

## Q_NJFET_DGS
designator *  value Q_NJFET_DGS  Reference: Q
ki_keywords: transistor NJFET N-JFET; ki_description: N-JFET transistor, drain/gate/source; Datasheet: ~
pins: 1 D, 2 G, 3 S

## Q_NJFET_DSG
designator *  value Q_NJFET_DSG  Reference: Q
ki_keywords: transistor NJFET N-JFET; ki_description: N-JFET transistor, drain/source/gate; Datasheet: ~
pins: 1 D, 2 S, 3 G

## Q_NJFET_GDS
designator *  value Q_NJFET_GDS  Reference: Q
ki_keywords: transistor NJFET N-JFET; ki_description: N-JFET transistor, gate/drain/source; Datasheet: ~
pins: 1 G, 2 D, 3 S

## Q_NJFET_GSD
designator *  value Q_NJFET_GSD  Reference: Q
ki_keywords: transistor NJFET N-JFET; ki_description: N-JFET transistor, gate/source/drain; Datasheet: ~
pins: 1 G, 2 S, 3 D

## Q_NJFET_SDG
designator *  value Q_NJFET_SDG  Reference: Q
ki_keywords: transistor NJFET N-JFET; ki_description: N-JFET transistor, source/drain/gate; Datasheet: ~
pins: 1 S, 2 D, 3 G

## Q_NJFET_SGD
designator *  value Q_NJFET_SGD  Reference: Q
ki_keywords: transistor NJFET N-JFET; ki_description: N-JFET transistor, source/gate/drain; Datasheet: ~
pins: 1 S, 2 G, 3 D

## Q_NMOS_Depletion_DGS
designator *  value Q_NMOS_Depletion_DGS  Reference: Q
ki_keywords: Depletion-mode N-channel MOSFET; ki_description: Depletion-mode N-channel MOSFET, drain/gate/source; Datasheet: ~
pins: 1 D, 2 G, 3 S

## Q_NMOS_Depletion_DSG
designator *  value Q_NMOS_Depletion_DSG  Reference: Q
ki_keywords: Depletion-mode N-channel MOSFET; ki_description: Depletion-mode N-channel MOSFET drain/source/gate; Datasheet: ~
pins: 1 D, 2 S, 3 G

## Q_NMOS_Depletion_GDS
designator *  value Q_NMOS_Depletion_GDS  Reference: Q
ki_keywords: Depletion-mode N-channel MOSFET; ki_description: Depletion-mode N-channel MOSFET gate/drain/source; Datasheet: ~
pins: 1 G, 2 D, 3 S

## Q_NMOS_Depletion_GSD
designator *  value Q_NMOS_Depletion_GSD  Reference: Q
ki_keywords: Depletion-mode N-channel MOSFET; ki_description: Depletion-mode N-channel MOSFET gate/source/drain; Datasheet: ~
pins: 1 G, 2 S, 3 D

## Q_NMOS_Depletion_SDG
designator *  value Q_NMOS_Depletion_SDG  Reference: Q
ki_keywords: Depletion-mode N-channel MOSFET; ki_description: Depletion-mode N-channel MOSFET source/drain/gate; Datasheet: ~
pins: 1 S, 2 D, 3 G

## Q_NMOS_Depletion_SGD
designator *  value Q_NMOS_Depletion_SGD  Reference: Q
ki_keywords: Depletion-mode N-channel MOSFET; ki_description: Depletion-mode N-channel MOSFET source/gate/drain; Datasheet: ~
pins: 1 S, 2 G, 3 D

## Q_NMOS_DGS
designator *  value Q_NMOS_DGS  Reference: Q
ki_keywords: transistor NMOS N-MOS N-MOSFET; ki_description: N-MOSFET transistor, drain/gate/source; Datasheet: ~
pins: 1 D, 2 G, 3 S

## Q_NMOS_DSG
designator *  value Q_NMOS_DSG  Reference: Q
ki_keywords: transistor NMOS N-MOS N-MOSFET; ki_description: N-MOSFET transistor, drain/source/gate; Datasheet: ~
pins: 1 D, 2 S, 3 G

## Q_NMOS_GDS
designator *  value Q_NMOS_GDS  Reference: Q
ki_keywords: transistor NMOS N-MOS N-MOSFET; ki_description: N-MOSFET transistor, gate/drain/source; Datasheet: ~
pins: 1 G, 2 D, 3 S

## Q_NMOS_GDSD
designator *  value Q_NMOS_GDSD  Reference: Q
ki_keywords: transistor NMOS N-MOS N-MOSFET; ki_description: N-MOSFET transistor, gate/drain/source, drain connected to mounting plane; Datasheet: ~
pins: 1 G, 2 D, 3 S, 4 D

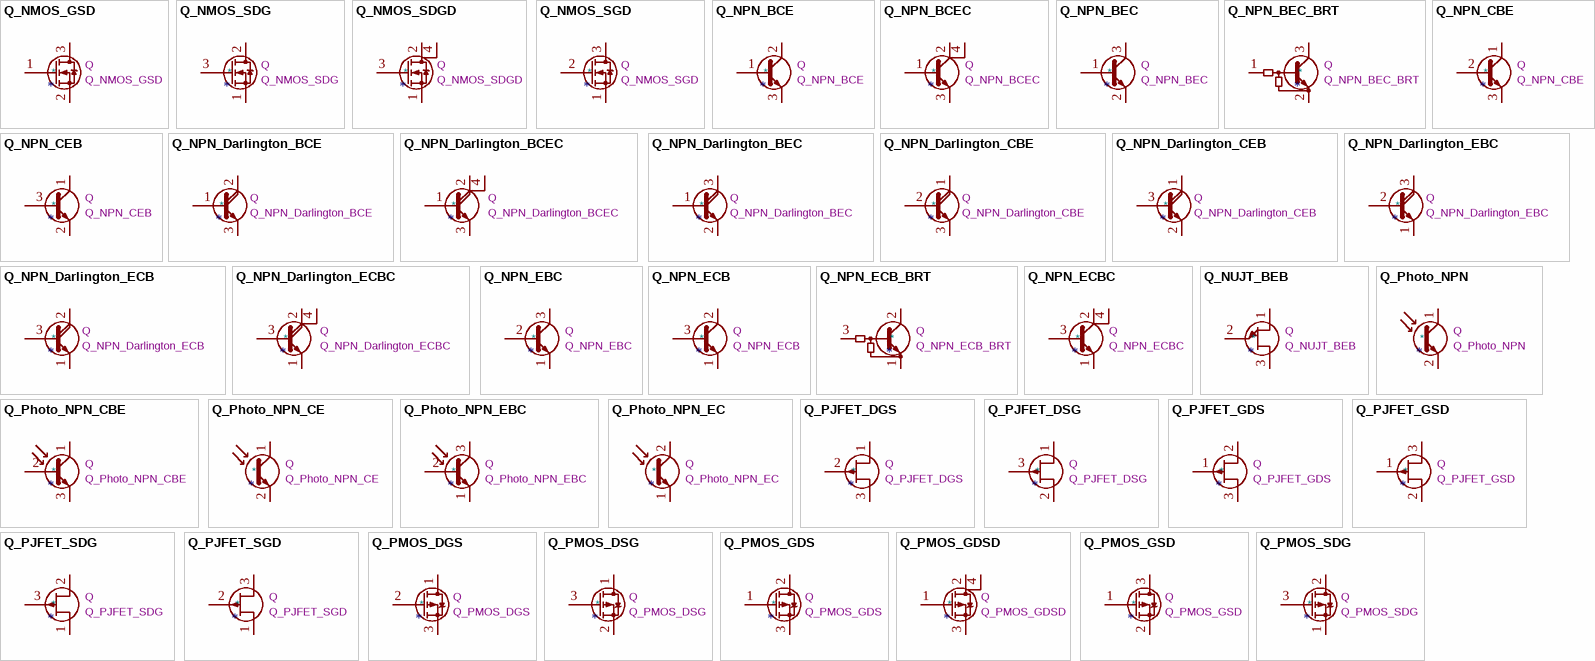
[diagram p11: symbols Q_NMOS_GSD to Q_PMOS_SDG]

## Q_NMOS_GSD
designator *  value Q_NMOS_GSD  Reference: Q
ki_keywords: transistor NMOS N-MOS N-MOSFET; ki_description: N-MOSFET transistor, gate/source/drain; Datasheet: ~
pins: 1 G, 2 S, 3 D

## Q_NMOS_SDG
designator *  value Q_NMOS_SDG  Reference: Q
ki_keywords: transistor NMOS N-MOS N-MOSFET; ki_description: N-MOSFET transistor, source/drain/gate; Datasheet: ~
pins: 1 S, 2 D, 3 G

## Q_NMOS_SDGD
designator *  value Q_NMOS_SDGD  Reference: Q
ki_keywords: transistor NMOS N-MOS N-MOSFET; ki_description: N-MOSFET transistor, source/drain/gate, drain connected to mounting plane; Datasheet: ~
pins: 1 S, 2 D, 3 G, 4 D

## Q_NMOS_SGD
designator *  value Q_NMOS_SGD  Reference: Q
ki_keywords: transistor NMOS N-MOS N-MOSFET; ki_description: N-MOSFET transistor, source/gate/drain; Datasheet: ~
pins: 1 S, 2 G, 3 D

## Q_NPN_BCE
designator *  value Q_NPN_BCE  Reference: Q
ki_keywords: transistor NPN; ki_description: NPN transistor, base/collector/emitter; Datasheet: ~
pins: 1 B, 2 C, 3 E

## Q_NPN_BCEC
designator *  value Q_NPN_BCEC  Reference: Q
ki_keywords: transistor NPN; ki_description: NPN transistor, base/collector/emitter, collector connected to mounting plane; Datasheet: ~
pins: 1 B, 2 C, 3 E, 4 C

## Q_NPN_BEC
designator *  value Q_NPN_BEC  Reference: Q
ki_keywords: transistor NPN; ki_description: NPN transistor, base/emitter/collector; Datasheet: ~
pins: 1 B, 2 E, 3 C

## Q_NPN_BEC_BRT
designator *  value Q_NPN_BEC_BRT  Reference: Q
ki_keywords: transistor NPN; ki_description: NPN bias resistor transistor, base/emitter/collector; Datasheet: ~
pins: 1 B, 2 E, 3 C

## Q_NPN_CBE
designator *  value Q_NPN_CBE  Reference: Q
ki_keywords: transistor NPN; ki_description: NPN transistor, collector/base/emitter; Datasheet: ~
pins: 1 C, 2 B, 3 E

## Q_NPN_CEB
designator *  value Q_NPN_CEB  Reference: Q
ki_keywords: transistor NPN; ki_description: NPN transistor, collector/emitter/base; Datasheet: ~
pins: 1 C, 2 E, 3 B

## Q_NPN_Darlington_BCE
designator *  value Q_NPN_Darlington_BCE  Reference: Q
ki_keywords: transistor NPN Darlington; ki_description: NPN Darlington transistor, base/collector/emitter; Datasheet: ~
pins: 1 B, 2 C, 3 E

## Q_NPN_Darlington_BCEC
designator *  value Q_NPN_Darlington_BCEC  Reference: Q
ki_keywords: transistor NPN Darlington; ki_description: NPN Darlington transistor, base/collector/emitter, collector connected to mounting plane; Datasheet: ~
pins: 1 B, 2 C, 3 E, 4 C2

## Q_NPN_Darlington_BEC
designator *  value Q_NPN_Darlington_BEC  Reference: Q
ki_keywords: transistor NPN Darlington; ki_description: NPN Darlington transistor, base/emitter/collector; Datasheet: ~
pins: 1 B, 2 E, 3 C

## Q_NPN_Darlington_CBE
designator *  value Q_NPN_Darlington_CBE  Reference: Q
ki_keywords: transistor NPN Darlington; ki_description: NPN Darlington transistor, collector/base/emitter; Datasheet: ~
pins: 1 C, 2 B, 3 E

## Q_NPN_Darlington_CEB
designator *  value Q_NPN_Darlington_CEB  Reference: Q
ki_keywords: transistor NPN Darlington; ki_description: NPN Darlington transistor, collector/emitter/base; Datasheet: ~
pins: 1 C, 2 E, 3 B

## Q_NPN_Darlington_EBC
designator *  value Q_NPN_Darlington_EBC  Reference: Q
ki_keywords: transistor NPN Darlington; ki_description: NPN Darlington transistor, emitter/base/collector; Datasheet: ~
pins: 1 E, 2 B, 3 C

## Q_NPN_Darlington_ECB
designator *  value Q_NPN_Darlington_ECB  Reference: Q
ki_keywords: transistor NPN Darlington; ki_description: NPN Darlington transistor, emitter/collector/base; Datasheet: ~
pins: 1 E, 2 C, 3 B

## Q_NPN_Darlington_ECBC
designator *  value Q_NPN_Darlington_ECBC  Reference: Q
ki_keywords: transistor NPN Darlington; ki_description: NPN Darlington transistor, emitter/collector/base, collector connected to mounting plane; Datasheet: ~
pins: 1 E, 2 C, 3 B, 4 C2

## Q_NPN_EBC
designator *  value Q_NPN_EBC  Reference: Q
ki_keywords: transistor NPN; ki_description: NPN transistor, emitter/base/collector; Datasheet: ~
pins: 1 E, 2 B, 3 C

## Q_NPN_ECB
designator *  value Q_NPN_ECB  Reference: Q
ki_keywords: transistor NPN; ki_description: NPN transistor, emitter/collector/base; Datasheet: ~
pins: 1 E, 2 C, 3 B

## Q_NPN_ECB_BRT
designator *  value Q_NPN_ECB_BRT  Reference: Q
ki_keywords: transistor NPN; ki_description: NPN transistor, emitter/collector/base; Datasheet: ~
pins: 1 E, 2 C, 3 B

## Q_NPN_ECBC
designator *  value Q_NPN_ECBC  Reference: Q
ki_keywords: transistor NPN; ki_description: NPN transistor, emitter/collector/base, collector connected to mounting plane; Datasheet: ~
pins: 1 E, 2 C, 3 B, 4 C

## Q_NUJT_BEB
designator *  value Q_NUJT_BEB  Reference: Q
ki_keywords: transistor UJT; ki_description: N-Type unijunction transistor; Datasheet: ~
pins: 1 B2, 2 E, 3 B1

## Q_Photo_NPN
designator *  value Q_Photo_NPN  Reference: Q
ki_keywords: phototransistor NPN; ki_description: NPN phototransistor, collector/emitter; Datasheet: ~
pins: 1 C, 2 E

## Q_Photo_NPN_CBE
designator *  value Q_Photo_NPN_CBE  Reference: Q
ki_keywords: phototransistor NPN; ki_description: NPN phototransistor, collector/base/emitter; Datasheet: ~
pins: 1 C, 2 B, 3 E

## Q_Photo_NPN_CE
designator *  value Q_Photo_NPN_CE  Reference: Q
ki_keywords: phototransistor NPN; ki_description: NPN phototransistor, collector/emitter; Datasheet: ~
pins: 1 C, 2 E

## Q_Photo_NPN_EBC
designator *  value Q_Photo_NPN_EBC  Reference: Q
ki_keywords: phototransistor NPN; ki_description: NPN phototransistor, emitter/base/collector; Datasheet: ~
pins: 1 E, 2 B, 3 C

## Q_Photo_NPN_EC
designator *  value Q_Photo_NPN_EC  Reference: Q
ki_keywords: phototransistor NPN; ki_description: NPN phototransistor, emitter/collector; Datasheet: ~
pins: 1 E, 2 C

## Q_PJFET_DGS
designator *  value Q_PJFET_DGS  Reference: Q
ki_keywords: transistor PJFET P-JFET; ki_description: P-JFET transistor, drain/gate/source; Datasheet: ~
pins: 1 D, 2 G, 3 S

## Q_PJFET_DSG
designator *  value Q_PJFET_DSG  Reference: Q
ki_keywords: transistor PJFET P-JFET; ki_description: P-JFET transistor, drain/source/gate; Datasheet: ~
pins: 1 D, 2 S, 3 G

## Q_PJFET_GDS
designator *  value Q_PJFET_GDS  Reference: Q
ki_keywords: transistor PJFET P-JFET; ki_description: P-JFET transistor, gate/drain/source; Datasheet: ~
pins: 1 G, 2 D, 3 S

## Q_PJFET_GSD
designator *  value Q_PJFET_GSD  Reference: Q
ki_keywords: transistor PJFET P-JFET; ki_description: P-JFET transistor, gate/source/drain; Datasheet: ~
pins: 1 G, 2 S, 3 D

## Q_PJFET_SDG
designator *  value Q_PJFET_SDG  Reference: Q
ki_keywords: transistor PJFET P-JFET; ki_description: P-JFET transistor, source/drain/gate; Datasheet: ~
pins: 1 S, 2 D, 3 G

## Q_PJFET_SGD
designator *  value Q_PJFET_SGD  Reference: Q
ki_keywords: transistor PJFET P-JFET; ki_description: P-JFET transistor, source/gate/drain; Datasheet: ~
pins: 1 S, 2 G, 3 D

## Q_PMOS_DGS
designator *  value Q_PMOS_DGS  Reference: Q
ki_keywords: transistor PMOS P-MOS P-MOSFET; ki_description: P-MOSFET transistor, drain/gate/source; Datasheet: ~
pins: 1 D, 2 G, 3 S

## Q_PMOS_DSG
designator *  value Q_PMOS_DSG  Reference: Q
ki_keywords: transistor PMOS P-MOS P-MOSFET; ki_description: P-MOSFET transistor, drain/source/gate; Datasheet: ~
pins: 1 D, 2 S, 3 G

## Q_PMOS_GDS
designator *  value Q_PMOS_GDS  Reference: Q
ki_keywords: transistor PMOS P-MOS P-MOSFET; ki_description: P-MOSFET transistor, gate/drain/source; Datasheet: ~
pins: 1 G, 2 D, 3 S

## Q_PMOS_GDSD
designator *  value Q_PMOS_GDSD  Reference: Q
ki_keywords: transistor PMOS P-MOS P-MOSFET; ki_description: P-MOSFET transistor, gate/drain/source, drain connected to mounting plane; Datasheet: ~
pins: 1 G, 2 D, 3 S, 4 D

## Q_PMOS_GSD
designator *  value Q_PMOS_GSD  Reference: Q
ki_keywords: transistor PMOS P-MOS P-MOSFET; ki_description: P-MOSFET transistor, gate/source/drain; Datasheet: ~
pins: 1 G, 2 S, 3 D

## Q_PMOS_SDG
designator *  value Q_PMOS_SDG  Reference: Q
ki_keywords: transistor PMOS P-MOS P-MOSFET; ki_description: P-MOSFET transistor, source/drain/gate; Datasheet: ~
pins: 1 S, 2 D, 3 G

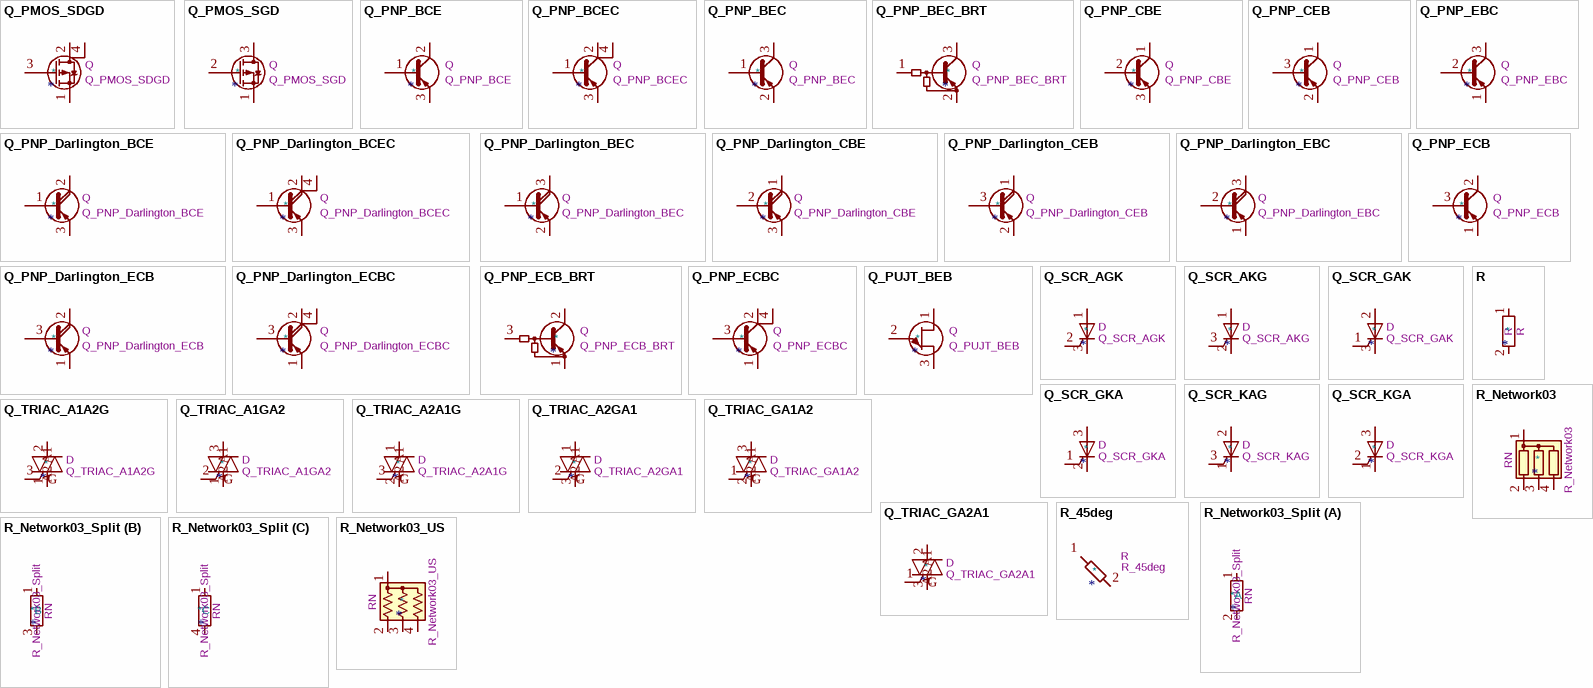
[diagram p12: symbols Q_PMOS_SDGD to R_Network03_US]

## Q_PMOS_SDGD
designator *  value Q_PMOS_SDGD  Reference: Q
ki_keywords: transistor PMOS P-MOS P-MOSFET; ki_description: P-MOSFET transistor, source/drain/gate, drain connected to mounting plane; Datasheet: ~
pins: 1 S, 2 D, 3 G, 4 D

## Q_PMOS_SGD
designator *  value Q_PMOS_SGD  Reference: Q
ki_keywords: transistor PMOS P-MOS P-MOSFET; ki_description: P-MOSFET transistor, source/gate/drain; Datasheet: ~
pins: 1 S, 2 G, 3 D

## Q_PNP_BCE
designator *  value Q_PNP_BCE  Reference: Q
ki_keywords: transistor PNP; ki_description: PNP transistor, base/collector/emitter; Datasheet: ~
pins: 1 B, 2 C, 3 E

## Q_PNP_BCEC
designator *  value Q_PNP_BCEC  Reference: Q
ki_keywords: transistor PNP; ki_description: PNP transistor, base/collector/emitter, collector connected to mounting plane; Datasheet: ~
pins: 1 B, 2 C, 3 E, 4 C

## Q_PNP_BEC
designator *  value Q_PNP_BEC  Reference: Q
ki_keywords: transistor PNP; ki_description: PNP transistor, base/emitter/collector; Datasheet: ~
pins: 1 B, 2 E, 3 C

## Q_PNP_BEC_BRT
designator *  value Q_PNP_BEC_BRT  Reference: Q
ki_keywords: transistor PNP; ki_description: PNP bias resistor transistor, base/emitter/collector; Datasheet: ~
pins: 1 B, 2 E, 3 C

## Q_PNP_CBE
designator *  value Q_PNP_CBE  Reference: Q
ki_keywords: transistor PNP; ki_description: PNP transistor, collector/base/emitter; Datasheet: ~
pins: 1 C, 2 B, 3 E

## Q_PNP_CEB
designator *  value Q_PNP_CEB  Reference: Q
ki_keywords: transistor PNP; ki_description: PNP transistor, collector/emitter/base; Datasheet: ~
pins: 1 C, 2 E, 3 B

## Q_PNP_Darlington_BCE
designator *  value Q_PNP_Darlington_BCE  Reference: Q
ki_keywords: transistor PNP Darlington; ki_description: PNP Darlington transistor, base/collector/emitter; Datasheet: ~
pins: 1 B, 2 C, 3 E

## Q_PNP_Darlington_BCEC
designator *  value Q_PNP_Darlington_BCEC  Reference: Q
ki_keywords: transistor PNP Darlington; ki_description: PNP Darlington transistor, base/collector/emitter, collector connected to mounting plane; Datasheet: ~
pins: 1 B, 2 C, 3 E, 4 C

## Q_PNP_Darlington_BEC
designator *  value Q_PNP_Darlington_BEC  Reference: Q
ki_keywords: transistor PNP Darlington; ki_description: PNP Darlington transistor, base/emitter/collector; Datasheet: ~
pins: 1 B, 2 E, 3 C

## Q_PNP_Darlington_CBE
designator *  value Q_PNP_Darlington_CBE  Reference: Q
ki_keywords: transistor PNP Darlington; ki_description: PNP Darlington transistor, collector/base/emitter; Datasheet: ~
pins: 1 C, 2 B, 3 E

## Q_PNP_Darlington_CEB
designator *  value Q_PNP_Darlington_CEB  Reference: Q
ki_keywords: transistor PNP Darlington; ki_description: PNP Darlington transistor, collector/emitter/base; Datasheet: ~
pins: 1 C, 2 E, 3 B

## Q_PNP_Darlington_EBC
designator *  value Q_PNP_Darlington_EBC  Reference: Q
ki_keywords: transistor PNP Darlington; ki_description: PNP Darlington transistor, emitter/base/collector; Datasheet: ~
pins: 1 E, 2 B, 3 C

## Q_PNP_Darlington_ECB
designator *  value Q_PNP_Darlington_ECB  Reference: Q
ki_keywords: transistor PNP Darlington; ki_description: PNP Darlington transistor, emitter/collector/base; Datasheet: ~
pins: 1 E, 2 C, 3 B

## Q_PNP_Darlington_ECBC
designator *  value Q_PNP_Darlington_ECBC  Reference: Q
ki_keywords: transistor PNP Darlington; ki_description: PNP Darlington transistor, emitter/collector/base, collector connected to mounting plane; Datasheet: ~
pins: 1 E, 2 C, 3 B, 4 C

## Q_PNP_EBC
designator *  value Q_PNP_EBC  Reference: Q
ki_keywords: transistor PNP; ki_description: PNP transistor, emitter/base/collector; Datasheet: ~
pins: 1 E, 2 B, 3 C

## Q_PNP_ECB
designator *  value Q_PNP_ECB  Reference: Q
ki_keywords: transistor PNP; ki_description: PNP transistor, emitter/collector/base; Datasheet: ~
pins: 1 E, 2 C, 3 B

## Q_PNP_ECB_BRT
designator *  value Q_PNP_ECB_BRT  Reference: Q
ki_keywords: transistor PNP; ki_description: PNP bias resistor transistor, emitter/collector/base; Datasheet: ~
pins: 1 E, 2 C, 3 B

## Q_PNP_ECBC
designator *  value Q_PNP_ECBC  Reference: Q
ki_keywords: transistor PNP; ki_description: PNP transistor, emitter/collector/base, collector connected to mounting plane; Datasheet: ~
pins: 1 E, 2 C, 3 B, 4 C